# Altium footprint library 0484050003.PcbLib: 2 footprints
Each footprint in its own frame and in the unit in brackets; x right, y up, seen from the top. Pads: shape width x height; smd on the part's side, far side on the other; paste and mask are expansions set on the pad; w line width, h text height; cw(c..) or ccw(c..) is an arc to the next point about the centre after c.
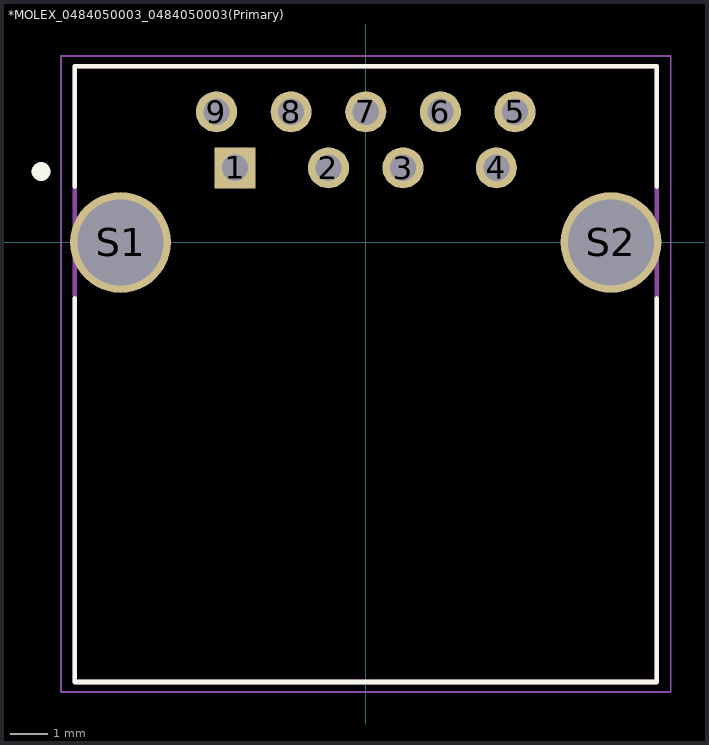
[diagram p0: the footprints below, top view; thin cyan lines are the x and y axes]

## *MOLEX_0484050003_0484050003(Primary) [mm]
pads (11):
  rect 1.1x1.1 hole 0.7: 1(-3.5,2)
  round 1.1 hole 0.7: 2(-1,2) 3(1,2) 4(3.5,2) 5(4,3.5) 6(2,3.5) 7(0,3.5) 8(-2,3.5) 9(-4,3.5)
  round 2.7 hole 2.3: S1(-6.57,0) S2(6.57,0)
Top Overlay:
  circle w0.3: c-8.7,1.9 r0.1
  lines w0.127: -7.8,-1.5 -7.8,-11.78 7.8,-11.78 7.8,-1.5 ; -7.8,1.5 -7.8,4.72 7.8,4.72 7.8,1.5
Mechanical 4:
  circle w0.3: c-8.7,1.9 r0.1
  circle w0.3: c-8.7,1.9 r0.1
  lines w0.127: -7.8,-11.78 -7.8,4.72 ; -7.8,-11.78 7.8,-11.78 ; -7.8,-11.78 -7.8,4.72 ; -7.8,-11.78 7.8,-11.78 ; -7.8,4.72 7.8,4.72 ; -7.8,4.72 7.8,4.72 ; 7.8,-11.78 7.8,4.72 ; 7.8,-11.78 7.8,4.72
Mechanical 16:
  lines w0.05: -8.17,-12.05 -8.17,5 8.17,5 8.17,-12.05 -8.17,-12.05

## PCBComponent_1 [mm]